# Altium footprint library PCB_Footprint.PcbLib: 124 footprints (part 5 of 8)
Each footprint in its own frame and in the unit in brackets; x right, y up, seen from the top. Pads: shape width x height; smd on the part's side, far side on the other; paste and mask are expansions set on the pad; w line width, h text height; cw(c..) or ccw(c..) is an arc to the next point about the centre after c.
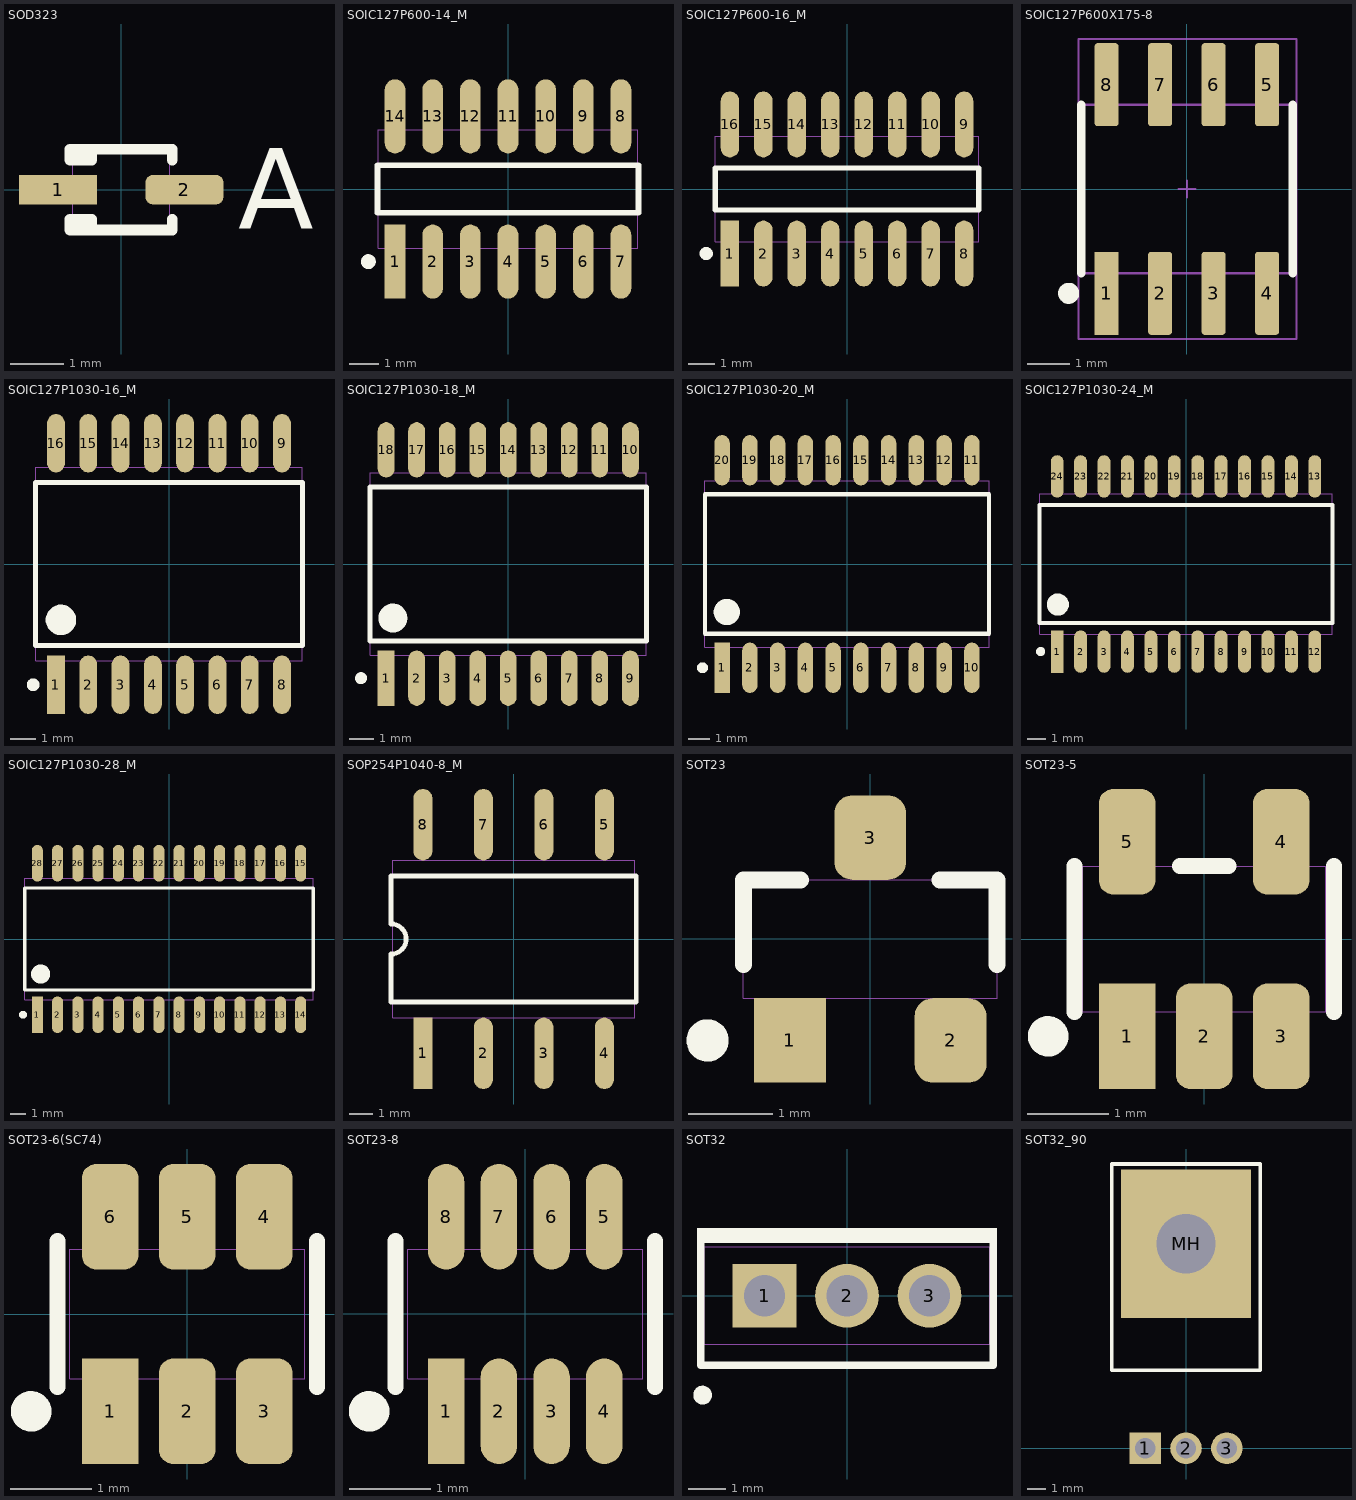
[diagram p4: the footprints below, top view; thin cyan lines are the x and y axes]

## SOD323 [mm] "SOD-323/SC-76; 2 Leads; Body 1.7 x 1.3 mm, (LxW)"
height 1.1
pads (2):
  rect 1.45x0.55 smd: 1(-1.175,0)
  rrect50% 1.45x0.55 smd: 2(1.175,0)
Top Overlay:
  lines w0.2: -0.55,-0.75 -0.55,-0.55 -0.95,-0.55 -0.95,-0.75 0.95,-0.75 0.95,-0.55 ; -0.55,0.75 -0.55,0.55 -0.95,0.55 -0.95,0.75 0.95,0.75 0.95,0.55
  text "A" at 2.175,-0.725 h1.5
Component Body:
  lines w0.01: -0.9,-0.7 -0.9,0.7 0.9,0.7 0.9,-0.7 -0.9,-0.7
3D body: height 1.1, standoff 0, extent -0.9,-0.7 0.9,0.7

## SOIC127P600-14_M [mm] "SOIC, 14-Leads, Body 3.9x8.65mm (narrow body), Pitch 1.27mm, IPC Low Density"
height 1.75
pads (14):
  rect 0.7x2.5 smd: 1(-3.81,-2.45)
  oval 0.7x2.5 smd: 2(-2.54,-2.45) 3(-1.27,-2.45) 4(0,-2.45) 5(1.27,-2.45) 6(2.54,-2.45) 7(3.81,-2.45) 8(3.81,2.45) 9(2.54,2.45) 10(1.27,2.45) 11(0,2.45) 12(-1.27,2.45) 13(-2.54,2.45) 14(-3.81,2.45)
Top Overlay:
  circle w0.25: c-4.71,-2.45 r0.125
  lines w0.2: -4.4,-0.8 -4.4,0.8 4.4,0.8 4.4,-0.8 -4.4,-0.8
Component Body:
  lines w0.01: -4.375,-2 -4.375,2 4.375,2 4.375,-2 -4.375,-2
3D body: height 0.95, standoff 0.75, extent -4.06,2 -3.56,2.35
3D body: height 0.75, standoff 0.1, extent -4.06,2.15 -3.56,2.35
3D body: height 0.2, standoff 0, extent -4.06,2.15 -3.56,3.1
3D body: height 0.95, standoff 0.75, extent -2.79,2 -2.29,2.35
3D body: height 0.75, standoff 0.1, extent -2.79,2.15 -2.29,2.35
3D body: height 0.2, standoff 0, extent -2.79,2.15 -2.29,3.1
3D body: height 0.95, standoff 0.75, extent -1.52,2 -1.02,2.35
3D body: height 0.75, standoff 0.1, extent -1.52,2.15 -1.02,2.35
3D body: height 0.2, standoff 0, extent -1.52,2.15 -1.02,3.1
3D body: height 0.95, standoff 0.75, extent -0.25,2 0.25,2.35
3D body: height 0.75, standoff 0.1, extent -0.25,2.15 0.25,2.35
3D body: height 0.2, standoff 0, extent -0.25,2.15 0.25,3.1
3D body: height 0.95, standoff 0.75, extent 1.02,2 1.52,2.35
3D body: height 0.75, standoff 0.1, extent 1.02,2.15 1.52,2.35
3D body: height 0.2, standoff 0, extent 1.02,2.15 1.52,3.1
3D body: height 0.95, standoff 0.75, extent 2.29,2 2.79,2.35
3D body: height 0.75, standoff 0.1, extent 2.29,2.15 2.79,2.35
3D body: height 0.2, standoff 0, extent 2.29,2.15 2.79,3.1
3D body: height 0.95, standoff 0.75, extent 3.56,2 4.06,2.35
3D body: height 0.75, standoff 0.1, extent 3.56,2.15 4.06,2.35
3D body: height 0.2, standoff 0, extent 3.56,2.15 4.06,3.1
3D body: height 0.95, standoff 0.75, extent 3.56,-2.35 4.06,-2
3D body: height 0.75, standoff 0.1, extent 3.56,-2.35 4.06,-2.15
3D body: height 0.2, standoff 0, extent 3.56,-3.1 4.06,-2.15
3D body: height 0.95, standoff 0.75, extent 2.29,-2.35 2.79,-2
3D body: height 0.75, standoff 0.1, extent 2.29,-2.35 2.79,-2.15
3D body: height 0.2, standoff 0, extent 2.29,-3.1 2.79,-2.15
3D body: height 0.95, standoff 0.75, extent 1.02,-2.35 1.52,-2
3D body: height 0.75, standoff 0.1, extent 1.02,-2.35 1.52,-2.15
3D body: height 0.2, standoff 0, extent 1.02,-3.1 1.52,-2.15
3D body: height 0.95, standoff 0.75, extent -0.25,-2.35 0.25,-2
3D body: height 0.75, standoff 0.1, extent -0.25,-2.35 0.25,-2.15
3D body: height 0.2, standoff 0, extent -0.25,-3.1 0.25,-2.15
3D body: height 0.95, standoff 0.75, extent -1.52,-2.35 -1.02,-2
3D body: height 0.75, standoff 0.1, extent -1.52,-2.35 -1.02,-2.15
3D body: height 0.2, standoff 0, extent -1.52,-3.1 -1.02,-2.15
3D body: height 1.75, standoff 0, extent -4.375,-2 4.375,2
3D body: height 0.2, standoff 0, extent -4.06,-3.1 -3.56,-2.15
3D body: height 0.75, standoff 0.1, extent -4.06,-2.35 -3.56,-2.15
3D body: height 0.95, standoff 0.75, extent -4.06,-2.35 -3.56,-2
3D body: height 0.2, standoff 0, extent -2.79,-3.1 -2.29,-2.15
3D body: height 0.75, standoff 0.1, extent -2.79,-2.35 -2.29,-2.15
3D body: height 0.95, standoff 0.75, extent -2.79,-2.35 -2.29,-2

## SOIC127P600-16_M [mm] "SOIC, 16-Leads, Body 3.9x9.9mm (narrow body), Pitch 1.27mm, IPC Low Density"
height 1.75
pads (16):
  rect 0.7x2.5 smd: 1(-4.445,-2.45)
  oval 0.7x2.5 smd: 2(-3.175,-2.45) 3(-1.905,-2.45) 4(-0.635,-2.45) 5(0.635,-2.45) 6(1.905,-2.45) 7(3.175,-2.45) 8(4.445,-2.45) 9(4.445,2.45) 10(3.175,2.45) 11(1.905,2.45) 12(0.635,2.45) 13(-0.635,2.45) 14(-1.905,2.45) 15(-3.175,2.45) 16(-4.445,2.45)
Top Overlay:
  circle w0.25: c-5.345,-2.45 r0.125
  lines w0.2: -5,-0.8 5,-0.8 5,0.8 -5,0.8 -5,-0.8
Component Body:
  lines w0.01: -5,-2 -5,2 5,2 5,-2 -5,-2
3D body: height 1.75, standoff 0, extent -5,-2 5,2
3D body: height 0.2, standoff 0, extent -4.695,2.15 -4.195,3.1
3D body: height 0.75, standoff 0.1, extent -4.695,2.15 -4.195,2.35
3D body: height 0.95, standoff 0.75, extent -4.695,2 -4.195,2.35
3D body: height 0.2, standoff 0, extent -3.425,2.15 -2.925,3.1
3D body: height 0.75, standoff 0.1, extent -3.425,2.15 -2.925,2.35
3D body: height 0.95, standoff 0.75, extent -3.425,2 -2.925,2.35
3D body: height 0.2, standoff 0, extent -2.155,2.15 -1.655,3.1
3D body: height 0.75, standoff 0.1, extent -2.155,2.15 -1.655,2.35
3D body: height 0.95, standoff 0.75, extent -2.155,2 -1.655,2.35
3D body: height 0.2, standoff 0, extent -0.885,2.15 -0.385,3.1
3D body: height 0.75, standoff 0.1, extent -0.885,2.15 -0.385,2.35
3D body: height 0.95, standoff 0.75, extent -0.885,2 -0.385,2.35
3D body: height 0.2, standoff 0, extent 0.385,2.15 0.885,3.1
3D body: height 0.75, standoff 0.1, extent 0.385,2.15 0.885,2.35
3D body: height 0.95, standoff 0.75, extent 0.385,2 0.885,2.35
3D body: height 0.2, standoff 0, extent 1.655,2.15 2.155,3.1
3D body: height 0.75, standoff 0.1, extent 1.655,2.15 2.155,2.35
3D body: height 0.95, standoff 0.75, extent 1.655,2 2.155,2.35
3D body: height 0.2, standoff 0, extent 2.925,2.15 3.425,3.1
3D body: height 0.75, standoff 0.1, extent 2.925,2.15 3.425,2.35
3D body: height 0.95, standoff 0.75, extent 2.925,2 3.425,2.35
3D body: height 0.2, standoff 0, extent 4.195,2.15 4.695,3.1
3D body: height 0.75, standoff 0.1, extent 4.195,2.15 4.695,2.35
3D body: height 0.95, standoff 0.75, extent 4.195,2 4.695,2.35
3D body: height 0.2, standoff 0, extent -4.695,-3.1 -4.195,-2.15
3D body: height 0.75, standoff 0.1, extent -4.695,-2.35 -4.195,-2.15
3D body: height 0.95, standoff 0.75, extent -4.695,-2.35 -4.195,-2
3D body: height 0.2, standoff 0, extent -3.425,-3.1 -2.925,-2.15
3D body: height 0.75, standoff 0.1, extent -3.425,-2.35 -2.925,-2.15
3D body: height 0.95, standoff 0.75, extent -3.425,-2.35 -2.925,-2
3D body: height 0.2, standoff 0, extent -2.155,-3.1 -1.655,-2.15
3D body: height 0.75, standoff 0.1, extent -2.155,-2.35 -1.655,-2.15
3D body: height 0.95, standoff 0.75, extent -2.155,-2.35 -1.655,-2
3D body: height 0.2, standoff 0, extent -0.885,-3.1 -0.385,-2.15
3D body: height 0.75, standoff 0.1, extent -0.885,-2.35 -0.385,-2.15
3D body: height 0.95, standoff 0.75, extent -0.885,-2.35 -0.385,-2
3D body: height 0.2, standoff 0, extent 0.385,-3.1 0.885,-2.15
3D body: height 0.75, standoff 0.1, extent 0.385,-2.35 0.885,-2.15
3D body: height 0.95, standoff 0.75, extent 0.385,-2.35 0.885,-2
3D body: height 0.2, standoff 0, extent 1.655,-3.1 2.155,-2.15
3D body: height 0.75, standoff 0.1, extent 1.655,-2.35 2.155,-2.15
3D body: height 0.95, standoff 0.75, extent 1.655,-2.35 2.155,-2
3D body: height 0.2, standoff 0, extent 2.925,-3.1 3.425,-2.15
3D body: height 0.75, standoff 0.1, extent 2.925,-2.35 3.425,-2.15
3D body: height 0.95, standoff 0.75, extent 2.925,-2.35 3.425,-2
3D body: height 0.2, standoff 0, extent 4.195,-3.1 4.695,-2.15
3D body: height 0.75, standoff 0.1, extent 4.195,-2.35 4.695,-2.15
3D body: height 0.95, standoff 0.75, extent 4.195,-2.35 4.695,-2

## SOIC127P600X175-8 [mm]
height 1.75
pads (8):
  rect 0.57x1.97 smd paste+0 mask+0.05: 1(-1.905,-2.475)
  rrect25% 0.57x1.97 smd paste+0 mask+0.05: 2(-0.635,-2.475) 3(0.635,-2.475) 4(1.905,-2.475) 5(1.905,2.475) 6(0.635,2.475) 7(-0.635,2.475) 8(-1.905,2.475)
Top Overlay:
  circle w0.25: c-2.805,-2.475 r0.125
  lines w0.2: -2.51,-2 -2.51,2 ; 2.51,-2 2.51,2
Top Courtyard:
  lines w0.05: -2.575,-3.56 2.6,-3.56 2.6,3.56 -2.575,3.56 -2.575,-3.56
Top Component Center:
  lines w0.05: -0.2,0 0.2,0 ; 0,-0.2 0,0.2
Top Component Outline:
  lines w0.05: -2.45,-2 2.45,-2 2.45,2 -2.45,2 -2.45,-2
Top Designator:
  text ".Designator" at 0.395,-3.932 h1.75
3D body "SOIC127P600X175-8N.STEP": height 1.75, standoff 0, extent -2.45,-3 2.45,3

## SOIC127P1030-16_M [mm] "SOIC, 16-Leads, Body 7.5x10.3mm (wide body), Pitch 1.27mm, IPC Low Density"
height 2.67
pads (16):
  rect 0.7x2.3 smd: 1(-4.445,-4.75)
  oval 0.7x2.3 smd: 2(-3.175,-4.75) 3(-1.905,-4.75) 4(-0.635,-4.75) 5(0.635,-4.75) 6(1.905,-4.75) 7(3.175,-4.75) 8(4.445,-4.75) 9(4.445,4.75) 10(3.175,4.75) 11(1.905,4.75) 12(0.635,4.75) 13(-0.635,4.75) 14(-1.905,4.75) 15(-3.175,4.75) 16(-4.445,4.75)
Top Overlay:
  circle w0.25: c-5.345,-4.75 r0.125
  circle w0.6: c-4.25,-2.2 r0.3
  lines w0.2: -5.25,-3.2 5.25,-3.2 5.25,3.2 -5.25,3.2 -5.25,-3.2
Component Body:
  lines w0.01: -5.25,-3.8 5.25,-3.8 5.25,3.8 -5.25,3.8 -5.25,-3.8
3D body: height 0.2, standoff 0, extent 4.195,4.175 4.695,5.325
3D body: height 1.2, standoff 0.1, extent 4.195,4.175 4.695,4.375
3D body: height 1.4, standoff 1.2, extent 4.195,3.8 4.695,4.375
3D body: height 0.2, standoff 0, extent 2.925,4.175 3.425,5.325
3D body: height 1.2, standoff 0.1, extent 2.925,4.175 3.425,4.375
3D body: height 1.4, standoff 1.2, extent 2.925,3.8 3.425,4.375
3D body: height 0.2, standoff 0, extent 1.655,4.175 2.155,5.325
3D body: height 1.2, standoff 0.1, extent 1.655,4.175 2.155,4.375
3D body: height 1.4, standoff 1.2, extent 1.655,3.8 2.155,4.375
3D body: height 0.2, standoff 0, extent 0.385,4.175 0.885,5.325
3D body: height 1.2, standoff 0.1, extent 0.385,4.175 0.885,4.375
3D body: height 1.4, standoff 1.2, extent 0.385,3.8 0.885,4.375
3D body: height 0.2, standoff 0, extent -0.885,4.175 -0.385,5.325
3D body: height 1.2, standoff 0.1, extent -0.885,4.175 -0.385,4.375
3D body: height 1.4, standoff 1.2, extent -0.885,3.8 -0.385,4.375
3D body: height 0.2, standoff 0, extent -2.155,4.175 -1.655,5.325
3D body: height 1.2, standoff 0.1, extent -2.155,4.175 -1.655,4.375
3D body: height 1.4, standoff 1.2, extent -2.155,3.8 -1.655,4.375
3D body: height 0.2, standoff 0, extent -3.425,4.175 -2.925,5.325
3D body: height 1.2, standoff 0.1, extent -3.425,4.175 -2.925,4.375
3D body: height 1.4, standoff 1.2, extent -3.425,3.8 -2.925,4.375
3D body: height 0.2, standoff 0, extent -4.695,4.175 -4.195,5.325
3D body: height 1.2, standoff 0.1, extent -4.695,4.175 -4.195,4.375
3D body: height 1.4, standoff 1.2, extent -4.695,3.8 -4.195,4.375
3D body: height 1.4, standoff 1.2, extent 4.195,-4.375 4.695,-3.8
3D body: height 1.2, standoff 0.1, extent 4.195,-4.375 4.695,-4.175
3D body: height 0.2, standoff 0, extent 4.195,-5.325 4.695,-4.175
3D body: height 1.4, standoff 1.2, extent 2.925,-4.375 3.425,-3.8
3D body: height 1.2, standoff 0.1, extent 2.925,-4.375 3.425,-4.175
3D body: height 0.2, standoff 0, extent 2.925,-5.325 3.425,-4.175
3D body: height 1.4, standoff 1.2, extent 1.655,-4.375 2.155,-3.8
3D body: height 1.2, standoff 0.1, extent 1.655,-4.375 2.155,-4.175
3D body: height 0.2, standoff 0, extent 1.655,-5.325 2.155,-4.175
3D body: height 1.4, standoff 1.2, extent 0.385,-4.375 0.885,-3.8
3D body: height 1.2, standoff 0.1, extent 0.385,-4.375 0.885,-4.175
3D body: height 0.2, standoff 0, extent 0.385,-5.325 0.885,-4.175
3D body: height 1.4, standoff 1.2, extent -0.885,-4.375 -0.385,-3.8
3D body: height 1.2, standoff 0.1, extent -0.885,-4.375 -0.385,-4.175
3D body: height 0.2, standoff 0, extent -0.885,-5.325 -0.385,-4.175
3D body: height 1.4, standoff 1.2, extent -2.155,-4.375 -1.655,-3.8
3D body: height 1.2, standoff 0.1, extent -2.155,-4.375 -1.655,-4.175
3D body: height 0.2, standoff 0, extent -2.155,-5.325 -1.655,-4.175
3D body: height 1.4, standoff 1.2, extent -3.425,-4.375 -2.925,-3.8
3D body: height 1.2, standoff 0.1, extent -3.425,-4.375 -2.925,-4.175
3D body: height 0.2, standoff 0, extent -3.425,-5.325 -2.925,-4.175
3D body: height 1.4, standoff 1.2, extent -4.695,-4.375 -4.195,-3.8
3D body: height 1.2, standoff 0.1, extent -4.695,-4.375 -4.195,-4.175
3D body: height 0.2, standoff 0, extent -4.695,-5.325 -4.195,-4.175
3D body: height 2.67, standoff 0, extent -5.25,-3.8 5.25,3.8

## SOIC127P1030-18_M [mm] "SOIC, 18-Leads, Body 7.5x11.55mm (wide body), Pitch 1.27mm, IPC Low Density"
height 2.67
pads (18):
  rect 0.7x2.3 smd: 1(-5.08,-4.75)
  oval 0.7x2.3 smd: 2(-3.81,-4.75) 3(-2.54,-4.75) 4(-1.27,-4.75) 5(0,-4.75) 6(1.27,-4.75) 7(2.54,-4.75) 8(3.81,-4.75) 9(5.08,-4.75) 10(5.08,4.75) 11(3.81,4.75) 12(2.54,4.75) 13(1.27,4.75) 14(0,4.75) 15(-1.27,4.75) 16(-2.54,4.75) 17(-3.81,4.75) 18(-5.08,4.75)
Top Overlay:
  circle w0.25: c-6.125,-4.75 r0.125
  circle w0.6: c-4.8,-2.25 r0.3
  lines w0.2: -5.75,-3.2 5.75,-3.2 5.75,3.2 -5.75,3.2 -5.75,-3.2
Component Body:
  lines w0.01: -5.75,-3.8 5.75,-3.8 5.75,3.8 -5.75,3.8 -5.75,-3.8
3D body: height 1.4, standoff 1.2, extent -5.33,3.8 -4.83,4.375
3D body: height 1.2, standoff 0.1, extent -5.33,4.175 -4.83,4.375
3D body: height 0.2, standoff 0, extent -5.33,4.175 -4.83,5.325
3D body: height 1.4, standoff 1.2, extent -4.06,3.8 -3.56,4.375
3D body: height 1.2, standoff 0.1, extent -4.06,4.175 -3.56,4.375
3D body: height 0.2, standoff 0, extent -4.06,4.175 -3.56,5.325
3D body: height 1.4, standoff 1.2, extent -2.79,3.8 -2.29,4.375
3D body: height 1.2, standoff 0.1, extent -2.79,4.175 -2.29,4.375
3D body: height 0.2, standoff 0, extent -2.79,4.175 -2.29,5.325
3D body: height 1.4, standoff 1.2, extent -1.52,3.8 -1.02,4.375
3D body: height 1.2, standoff 0.1, extent -1.52,4.175 -1.02,4.375
3D body: height 0.2, standoff 0, extent -1.52,4.175 -1.02,5.325
3D body: height 1.4, standoff 1.2, extent -0.25,3.8 0.25,4.375
3D body: height 1.2, standoff 0.1, extent -0.25,4.175 0.25,4.375
3D body: height 0.2, standoff 0, extent -0.25,4.175 0.25,5.325
3D body: height 1.4, standoff 1.2, extent 1.02,3.8 1.52,4.375
3D body: height 1.2, standoff 0.1, extent 1.02,4.175 1.52,4.375
3D body: height 0.2, standoff 0, extent 1.02,4.175 1.52,5.325
3D body: height 1.4, standoff 1.2, extent 2.29,3.8 2.79,4.375
3D body: height 1.2, standoff 0.1, extent 2.29,4.175 2.79,4.375
3D body: height 0.2, standoff 0, extent 2.29,4.175 2.79,5.325
3D body: height 1.4, standoff 1.2, extent 3.56,3.8 4.06,4.375
3D body: height 1.2, standoff 0.1, extent 3.56,4.175 4.06,4.375
3D body: height 0.2, standoff 0, extent 3.56,4.175 4.06,5.325
3D body: height 1.4, standoff 1.2, extent 4.83,3.8 5.33,4.375
3D body: height 1.2, standoff 0.1, extent 4.83,4.175 5.33,4.375
3D body: height 0.2, standoff 0, extent 4.83,4.175 5.33,5.325
3D body: height 1.4, standoff 1.2, extent 4.83,-4.375 5.33,-3.8
3D body: height 1.2, standoff 0.1, extent 4.83,-4.375 5.33,-4.175
3D body: height 0.2, standoff 0, extent 4.83,-5.325 5.33,-4.175
3D body: height 1.4, standoff 1.2, extent 3.56,-4.375 4.06,-3.8
3D body: height 1.2, standoff 0.1, extent 3.56,-4.375 4.06,-4.175
3D body: height 0.2, standoff 0, extent 3.56,-5.325 4.06,-4.175
3D body: height 1.4, standoff 1.2, extent 2.29,-4.375 2.79,-3.8
3D body: height 1.2, standoff 0.1, extent 2.29,-4.375 2.79,-4.175
3D body: height 0.2, standoff 0, extent 2.29,-5.325 2.79,-4.175
3D body: height 1.4, standoff 1.2, extent 1.02,-4.375 1.52,-3.8
3D body: height 1.2, standoff 0.1, extent 1.02,-4.375 1.52,-4.175
3D body: height 0.2, standoff 0, extent 1.02,-5.325 1.52,-4.175
3D body: height 1.4, standoff 1.2, extent -0.25,-4.375 0.25,-3.8
3D body: height 1.2, standoff 0.1, extent -0.25,-4.375 0.25,-4.175
3D body: height 0.2, standoff 0, extent -0.25,-5.325 0.25,-4.175
3D body: height 1.4, standoff 1.2, extent -1.52,-4.375 -1.02,-3.8
3D body: height 1.2, standoff 0.1, extent -1.52,-4.375 -1.02,-4.175
3D body: height 0.2, standoff 0, extent -1.52,-5.325 -1.02,-4.175
3D body: height 1.4, standoff 1.2, extent -2.79,-4.375 -2.29,-3.8
3D body: height 1.2, standoff 0.1, extent -2.79,-4.375 -2.29,-4.175
3D body: height 0.2, standoff 0, extent -2.79,-5.325 -2.29,-4.175
3D body: height 1.4, standoff 1.2, extent -4.06,-4.375 -3.56,-3.8
3D body: height 1.2, standoff 0.1, extent -4.06,-4.375 -3.56,-4.175
3D body: height 0.2, standoff 0, extent -4.06,-5.325 -3.56,-4.175
3D body: height 1.4, standoff 1.2, extent -5.33,-4.375 -4.83,-3.8
3D body: height 1.2, standoff 0.1, extent -5.33,-4.375 -4.83,-4.175
3D body: height 0.2, standoff 0, extent -5.33,-5.325 -4.83,-4.175
3D body: height 2.67, standoff 0, extent -5.75,-3.8 5.75,3.8

## SOIC127P1030-20_M [mm] "SOIC, 20-Leads, Body 7.5x12.8mm (wide body), Pitch 1.27mm, IPC Low Density"
height 2.67
pads (20):
  rect 0.7x2.3 smd: 1(-5.715,-4.75)
  oval 0.7x2.3 smd: 2(-4.445,-4.75) 3(-3.175,-4.75) 4(-1.905,-4.75) 5(-0.635,-4.75) 6(0.635,-4.75) 7(1.905,-4.75) 8(3.175,-4.75) 9(4.445,-4.75) 10(5.715,-4.75) 11(5.715,4.75) 12(4.445,4.75) 13(3.175,4.75) 14(1.905,4.75) 15(0.635,4.75) 16(-0.635,4.75) 17(-1.905,4.75) 18(-3.175,4.75) 19(-4.445,4.75) 20(-5.715,4.75)
Top Overlay:
  circle w0.25: c-6.615,-4.75 r0.125
  circle w0.6: c-5.5,-2.2 r0.3
  lines w0.2: -6.5,-3.2 6.5,-3.2 6.5,3.2 -6.5,3.2 -6.5,-3.2
Component Body:
  lines w0.01: -6.5,-3.8 -6.5,3.8 6.5,3.8 6.5,-3.8 -6.5,-3.8
3D body: height 1.4, standoff 1.2, extent -5.965,3.8 -5.465,4.375
3D body: height 1.2, standoff 0.1, extent -5.965,4.175 -5.465,4.375
3D body: height 0.2, standoff 0, extent -5.965,4.175 -5.465,5.325
3D body: height 1.4, standoff 1.2, extent -4.695,3.8 -4.195,4.375
3D body: height 1.2, standoff 0.1, extent -4.695,4.175 -4.195,4.375
3D body: height 0.2, standoff 0, extent -4.695,4.175 -4.195,5.325
3D body: height 1.4, standoff 1.2, extent -3.425,3.8 -2.925,4.375
3D body: height 1.2, standoff 0.1, extent -3.425,4.175 -2.925,4.375
3D body: height 0.2, standoff 0, extent -3.425,4.175 -2.925,5.325
3D body: height 1.4, standoff 1.2, extent -2.155,3.8 -1.655,4.375
3D body: height 1.2, standoff 0.1, extent -2.155,4.175 -1.655,4.375
3D body: height 0.2, standoff 0, extent -2.155,4.175 -1.655,5.325
3D body: height 1.4, standoff 1.2, extent -0.885,3.8 -0.385,4.375
3D body: height 1.2, standoff 0.1, extent -0.885,4.175 -0.385,4.375
3D body: height 0.2, standoff 0, extent -0.885,4.175 -0.385,5.325
3D body: height 1.4, standoff 1.2, extent 0.385,3.8 0.885,4.375
3D body: height 1.2, standoff 0.1, extent 0.385,4.175 0.885,4.375
3D body: height 0.2, standoff 0, extent 0.385,4.175 0.885,5.325
3D body: height 1.4, standoff 1.2, extent 1.655,3.8 2.155,4.375
3D body: height 1.2, standoff 0.1, extent 1.655,4.175 2.155,4.375
3D body: height 0.2, standoff 0, extent 1.655,4.175 2.155,5.325
3D body: height 1.4, standoff 1.2, extent 2.925,3.8 3.425,4.375
3D body: height 1.2, standoff 0.1, extent 2.925,4.175 3.425,4.375
3D body: height 0.2, standoff 0, extent 2.925,4.175 3.425,5.325
3D body: height 1.4, standoff 1.2, extent 4.195,3.8 4.695,4.375
3D body: height 1.2, standoff 0.1, extent 4.195,4.175 4.695,4.375
3D body: height 0.2, standoff 0, extent 4.195,4.175 4.695,5.325
3D body: height 1.4, standoff 1.2, extent 5.465,3.8 5.965,4.375
3D body: height 1.2, standoff 0.1, extent 5.465,4.175 5.965,4.375
3D body: height 0.2, standoff 0, extent 5.465,4.175 5.965,5.325
3D body: height 2.67, standoff 0, extent -6.5,-3.8 6.5,3.8
3D body: height 0.2, standoff 0, extent -5.965,-5.325 -5.465,-4.175
3D body: height 1.2, standoff 0.1, extent -5.965,-4.375 -5.465,-4.175
3D body: height 1.4, standoff 1.2, extent -5.965,-4.375 -5.465,-3.8
3D body: height 0.2, standoff 0, extent -4.695,-5.325 -4.195,-4.175
3D body: height 1.2, standoff 0.1, extent -4.695,-4.375 -4.195,-4.175
3D body: height 1.4, standoff 1.2, extent -4.695,-4.375 -4.195,-3.8
3D body: height 0.2, standoff 0, extent -3.425,-5.325 -2.925,-4.175
3D body: height 1.2, standoff 0.1, extent -3.425,-4.375 -2.925,-4.175
3D body: height 1.4, standoff 1.2, extent -3.425,-4.375 -2.925,-3.8
3D body: height 0.2, standoff 0, extent -2.155,-5.325 -1.655,-4.175
3D body: height 1.2, standoff 0.1, extent -2.155,-4.375 -1.655,-4.175
3D body: height 1.4, standoff 1.2, extent -2.155,-4.375 -1.655,-3.8
3D body: height 0.2, standoff 0, extent -0.885,-5.325 -0.385,-4.175
3D body: height 1.2, standoff 0.1, extent -0.885,-4.375 -0.385,-4.175
3D body: height 1.4, standoff 1.2, extent -0.885,-4.375 -0.385,-3.8
3D body: height 0.2, standoff 0, extent 0.385,-5.325 0.885,-4.175
3D body: height 1.2, standoff 0.1, extent 0.385,-4.375 0.885,-4.175
3D body: height 1.4, standoff 1.2, extent 0.385,-4.375 0.885,-3.8
3D body: height 0.2, standoff 0, extent 1.655,-5.325 2.155,-4.175
3D body: height 1.2, standoff 0.1, extent 1.655,-4.375 2.155,-4.175
3D body: height 1.4, standoff 1.2, extent 1.655,-4.375 2.155,-3.8
3D body: height 0.2, standoff 0, extent 2.925,-5.325 3.425,-4.175
3D body: height 1.2, standoff 0.1, extent 2.925,-4.375 3.425,-4.175
3D body: height 1.4, standoff 1.2, extent 2.925,-4.375 3.425,-3.8
3D body: height 0.2, standoff 0, extent 4.195,-5.325 4.695,-4.175
3D body: height 1.2, standoff 0.1, extent 4.195,-4.375 4.695,-4.175
3D body: height 1.4, standoff 1.2, extent 4.195,-4.375 4.695,-3.8
3D body: height 0.2, standoff 0, extent 5.465,-5.325 5.965,-4.175
3D body: height 1.2, standoff 0.1, extent 5.465,-4.375 5.965,-4.175
3D body: height 1.4, standoff 1.2, extent 5.465,-4.375 5.965,-3.8

## SOIC127P1030-24_M [mm] "SOIC, 24-Leads, Body 7.5x15.4mm (wide body), Pitch 1.27mm, IPC Low Density"
height 2.67
pads (24):
  rect 0.7x2.3 smd: 1(-6.985,-4.75)
  oval 0.7x2.3 smd: 2(-5.715,-4.75) 3(-4.445,-4.75) 4(-3.175,-4.75) 5(-1.905,-4.75) 6(-0.635,-4.75) 7(0.635,-4.75) 8(1.905,-4.75) 9(3.175,-4.75) 10(4.445,-4.75) 11(5.715,-4.75) 12(6.985,-4.75) 13(6.985,4.75) 14(5.715,4.75) 15(4.445,4.75) 16(3.175,4.75) 17(1.905,4.75) 18(0.635,4.75) 19(-0.635,4.75) 20(-1.905,4.75) 21(-3.175,4.75) 22(-4.445,4.75) 23(-5.715,4.75) 24(-6.985,4.75)
Top Overlay:
  circle w0.6: c-6.95,-2.2 r0.3
  circle w0.25: c-7.885,-4.75 r0.125
  lines w0.2: -7.95,-3.2 -7.95,3.2 7.95,3.2 7.95,-3.2 -7.95,-3.2
Component Body:
  lines w0.01: -7.925,-3.8 -7.925,3.8 7.925,3.8 7.925,-3.8 -7.925,-3.8
3D body: height 1.4, standoff 1.2, extent -7.235,3.8 -6.735,4.375
3D body: height 1.2, standoff 0.1, extent -7.235,4.175 -6.735,4.375
3D body: height 0.2, standoff 0, extent -7.235,4.175 -6.735,5.325
3D body: height 1.4, standoff 1.2, extent -5.965,3.8 -5.465,4.375
3D body: height 1.2, standoff 0.1, extent -5.965,4.175 -5.465,4.375
3D body: height 0.2, standoff 0, extent -5.965,4.175 -5.465,5.325
3D body: height 1.4, standoff 1.2, extent -4.695,3.8 -4.195,4.375
3D body: height 1.2, standoff 0.1, extent -4.695,4.175 -4.195,4.375
3D body: height 0.2, standoff 0, extent -4.695,4.175 -4.195,5.325
3D body: height 1.4, standoff 1.2, extent -3.425,3.8 -2.925,4.375
3D body: height 1.2, standoff 0.1, extent -3.425,4.175 -2.925,4.375
3D body: height 0.2, standoff 0, extent -3.425,4.175 -2.925,5.325
3D body: height 1.4, standoff 1.2, extent -2.155,3.8 -1.655,4.375
3D body: height 1.2, standoff 0.1, extent -2.155,4.175 -1.655,4.375
3D body: height 0.2, standoff 0, extent -2.155,4.175 -1.655,5.325
3D body: height 1.4, standoff 1.2, extent -0.885,3.8 -0.385,4.375
3D body: height 1.2, standoff 0.1, extent -0.885,4.175 -0.385,4.375
3D body: height 0.2, standoff 0, extent -0.885,4.175 -0.385,5.325
3D body: height 1.4, standoff 1.2, extent 0.385,3.8 0.885,4.375
3D body: height 1.2, standoff 0.1, extent 0.385,4.175 0.885,4.375
3D body: height 0.2, standoff 0, extent 0.385,4.175 0.885,5.325
3D body: height 1.4, standoff 1.2, extent 1.655,3.8 2.155,4.375
3D body: height 1.2, standoff 0.1, extent 1.655,4.175 2.155,4.375
3D body: height 0.2, standoff 0, extent 1.655,4.175 2.155,5.325
3D body: height 1.4, standoff 1.2, extent 2.925,3.8 3.425,4.375
3D body: height 1.2, standoff 0.1, extent 2.925,4.175 3.425,4.375
3D body: height 0.2, standoff 0, extent 2.925,4.175 3.425,5.325
3D body: height 1.4, standoff 1.2, extent 4.195,3.8 4.695,4.375
3D body: height 1.2, standoff 0.1, extent 4.195,4.175 4.695,4.375
3D body: height 0.2, standoff 0, extent 4.195,4.175 4.695,5.325
3D body: height 1.4, standoff 1.2, extent 5.465,3.8 5.965,4.375
3D body: height 1.2, standoff 0.1, extent 5.465,4.175 5.965,4.375
3D body: height 0.2, standoff 0, extent 5.465,4.175 5.965,5.325
3D body: height 1.4, standoff 1.2, extent 6.735,3.8 7.235,4.375
3D body: height 1.2, standoff 0.1, extent 6.735,4.175 7.235,4.375
3D body: height 0.2, standoff 0, extent 6.735,4.175 7.235,5.325
3D body: height 2.67, standoff 0, extent -7.925,-3.8 7.925,3.8
3D body: height 0.2, standoff 0, extent -7.235,-5.325 -6.735,-4.175
3D body: height 1.2, standoff 0.1, extent -7.235,-4.375 -6.735,-4.175
3D body: height 1.4, standoff 1.2, extent -7.235,-4.375 -6.735,-3.8
3D body: height 0.2, standoff 0, extent -5.965,-5.325 -5.465,-4.175
3D body: height 1.2, standoff 0.1, extent -5.965,-4.375 -5.465,-4.175
3D body: height 1.4, standoff 1.2, extent -5.965,-4.375 -5.465,-3.8
3D body: height 0.2, standoff 0, extent -4.695,-5.325 -4.195,-4.175
3D body: height 1.2, standoff 0.1, extent -4.695,-4.375 -4.195,-4.175
3D body: height 1.4, standoff 1.2, extent -4.695,-4.375 -4.195,-3.8
3D body: height 0.2, standoff 0, extent -3.425,-5.325 -2.925,-4.175
3D body: height 1.2, standoff 0.1, extent -3.425,-4.375 -2.925,-4.175
3D body: height 1.4, standoff 1.2, extent -3.425,-4.375 -2.925,-3.8
3D body: height 0.2, standoff 0, extent -2.155,-5.325 -1.655,-4.175
3D body: height 1.2, standoff 0.1, extent -2.155,-4.375 -1.655,-4.175
3D body: height 1.4, standoff 1.2, extent -2.155,-4.375 -1.655,-3.8
3D body: height 0.2, standoff 0, extent -0.885,-5.325 -0.385,-4.175
3D body: height 1.2, standoff 0.1, extent -0.885,-4.375 -0.385,-4.175
3D body: height 1.4, standoff 1.2, extent -0.885,-4.375 -0.385,-3.8
3D body: height 0.2, standoff 0, extent 0.385,-5.325 0.885,-4.175
3D body: height 1.2, standoff 0.1, extent 0.385,-4.375 0.885,-4.175
3D body: height 1.4, standoff 1.2, extent 0.385,-4.375 0.885,-3.8
3D body: height 0.2, standoff 0, extent 1.655,-5.325 2.155,-4.175
3D body: height 1.2, standoff 0.1, extent 1.655,-4.375 2.155,-4.175
3D body: height 1.4, standoff 1.2, extent 1.655,-4.375 2.155,-3.8
3D body: height 0.2, standoff 0, extent 2.925,-5.325 3.425,-4.175
3D body: height 1.2, standoff 0.1, extent 2.925,-4.375 3.425,-4.175
3D body: height 1.4, standoff 1.2, extent 2.925,-4.375 3.425,-3.8
3D body: height 0.2, standoff 0, extent 4.195,-5.325 4.695,-4.175
3D body: height 1.2, standoff 0.1, extent 4.195,-4.375 4.695,-4.175
3D body: height 1.4, standoff 1.2, extent 4.195,-4.375 4.695,-3.8
3D body: height 0.2, standoff 0, extent 5.465,-5.325 5.965,-4.175
3D body: height 1.2, standoff 0.1, extent 5.465,-4.375 5.965,-4.175
3D body: height 1.4, standoff 1.2, extent 5.465,-4.375 5.965,-3.8
3D body: height 0.2, standoff 0, extent 6.735,-5.325 7.235,-4.175
3D body: height 1.2, standoff 0.1, extent 6.735,-4.375 7.235,-4.175
3D body: height 1.4, standoff 1.2, extent 6.735,-4.375 7.235,-3.8

## SOIC127P1030-28_M [mm] "SOIC, 28-Leads, Body 7.5x17.9mm (wide body), Pitch 1.27mm, IPC Low Density"
height 2.67
pads (28):
  rect 0.7x2.3 smd: 1(-8.255,-4.75)
  oval 0.7x2.3 smd: 2(-6.985,-4.75) 3(-5.715,-4.75) 4(-4.445,-4.75) 5(-3.175,-4.75) 6(-1.905,-4.75) 7(-0.635,-4.75) 8(0.635,-4.75) 9(1.905,-4.75) 10(3.175,-4.75) 11(4.445,-4.75) 12(5.715,-4.75) 13(6.985,-4.75) 14(8.255,-4.75) 15(8.255,4.75) 16(6.985,4.75) 17(5.715,4.75) 18(4.445,4.75) 19(3.175,4.75) 20(1.905,4.75) 21(0.635,4.75) 22(-0.635,4.75) 23(-1.905,4.75) 24(-3.175,4.75) 25(-4.445,4.75) 26(-5.715,4.75) 27(-6.985,4.75) 28(-8.255,4.75)
Top Overlay:
  circle w0.25: c-9.155,-4.75 r0.125
  circle w0.6: c-8.05,-2.2 r0.3
  lines w0.2: -9.05,-3.2 9.05,-3.2 9.05,3.2 -9.05,3.2 -9.05,-3.2
Component Body:
  lines w0.01: -9.05,-3.8 9.05,-3.8 9.05,3.8 -9.05,3.8 -9.05,-3.8
3D body: height 0.2, standoff 0, extent 8.005,4.175 8.505,5.325
3D body: height 1.2, standoff 0.1, extent 8.005,4.175 8.505,4.375
3D body: height 1.4, standoff 1.2, extent 8.005,3.8 8.505,4.375
3D body: height 0.2, standoff 0, extent 6.735,4.175 7.235,5.325
3D body: height 1.2, standoff 0.1, extent 6.735,4.175 7.235,4.375
3D body: height 1.4, standoff 1.2, extent 6.735,3.8 7.235,4.375
3D body: height 0.2, standoff 0, extent 5.465,4.175 5.965,5.325
3D body: height 1.2, standoff 0.1, extent 5.465,4.175 5.965,4.375
3D body: height 1.4, standoff 1.2, extent 5.465,3.8 5.965,4.375
3D body: height 0.2, standoff 0, extent 4.195,4.175 4.695,5.325
3D body: height 1.2, standoff 0.1, extent 4.195,4.175 4.695,4.375
3D body: height 1.4, standoff 1.2, extent 4.195,3.8 4.695,4.375
3D body: height 0.2, standoff 0, extent 2.925,4.175 3.425,5.325
3D body: height 1.2, standoff 0.1, extent 2.925,4.175 3.425,4.375
3D body: height 1.4, standoff 1.2, extent 2.925,3.8 3.425,4.375
3D body: height 0.2, standoff 0, extent 1.655,4.175 2.155,5.325
3D body: height 1.2, standoff 0.1, extent 1.655,4.175 2.155,4.375
3D body: height 1.4, standoff 1.2, extent 1.655,3.8 2.155,4.375
3D body: height 0.2, standoff 0, extent 0.385,4.175 0.885,5.325
3D body: height 1.2, standoff 0.1, extent 0.385,4.175 0.885,4.375
3D body: height 1.4, standoff 1.2, extent 0.385,3.8 0.885,4.375
3D body: height 0.2, standoff 0, extent -0.885,4.175 -0.385,5.325
3D body: height 1.2, standoff 0.1, extent -0.885,4.175 -0.385,4.375
3D body: height 1.4, standoff 1.2, extent -0.885,3.8 -0.385,4.375
3D body: height 0.2, standoff 0, extent -2.155,4.175 -1.655,5.325
3D body: height 1.2, standoff 0.1, extent -2.155,4.175 -1.655,4.375
3D body: height 1.4, standoff 1.2, extent -2.155,3.8 -1.655,4.375
3D body: height 0.2, standoff 0, extent -3.425,4.175 -2.925,5.325
3D body: height 1.2, standoff 0.1, extent -3.425,4.175 -2.925,4.375
3D body: height 1.4, standoff 1.2, extent -3.425,3.8 -2.925,4.375
3D body: height 0.2, standoff 0, extent -4.695,4.175 -4.195,5.325
3D body: height 1.2, standoff 0.1, extent -4.695,4.175 -4.195,4.375
3D body: height 1.4, standoff 1.2, extent -4.695,3.8 -4.195,4.375
3D body: height 0.2, standoff 0, extent -5.965,4.175 -5.465,5.325
3D body: height 1.2, standoff 0.1, extent -5.965,4.175 -5.465,4.375
3D body: height 1.4, standoff 1.2, extent -5.965,3.8 -5.465,4.375
3D body: height 0.2, standoff 0, extent -7.235,4.175 -6.735,5.325
3D body: height 1.2, standoff 0.1, extent -7.235,4.175 -6.735,4.375
3D body: height 1.4, standoff 1.2, extent -7.235,3.8 -6.735,4.375
3D body: height 0.2, standoff 0, extent -8.505,4.175 -8.005,5.325
3D body: height 1.2, standoff 0.1, extent -8.505,4.175 -8.005,4.375
3D body: height 1.4, standoff 1.2, extent -8.505,3.8 -8.005,4.375
3D body: height 1.4, standoff 1.2, extent 8.005,-4.375 8.505,-3.8
3D body: height 1.2, standoff 0.1, extent 8.005,-4.375 8.505,-4.175
3D body: height 0.2, standoff 0, extent 8.005,-5.325 8.505,-4.175
3D body: height 1.4, standoff 1.2, extent 6.735,-4.375 7.235,-3.8
3D body: height 1.2, standoff 0.1, extent 6.735,-4.375 7.235,-4.175
3D body: height 0.2, standoff 0, extent 6.735,-5.325 7.235,-4.175
3D body: height 1.4, standoff 1.2, extent 5.465,-4.375 5.965,-3.8
3D body: height 1.2, standoff 0.1, extent 5.465,-4.375 5.965,-4.175
3D body: height 0.2, standoff 0, extent 5.465,-5.325 5.965,-4.175
3D body: height 1.4, standoff 1.2, extent 4.195,-4.375 4.695,-3.8
3D body: height 1.2, standoff 0.1, extent 4.195,-4.375 4.695,-4.175
3D body: height 0.2, standoff 0, extent 4.195,-5.325 4.695,-4.175
3D body: height 1.4, standoff 1.2, extent 2.925,-4.375 3.425,-3.8
3D body: height 1.2, standoff 0.1, extent 2.925,-4.375 3.425,-4.175
3D body: height 0.2, standoff 0, extent 2.925,-5.325 3.425,-4.175
3D body: height 1.4, standoff 1.2, extent 1.655,-4.375 2.155,-3.8
3D body: height 1.2, standoff 0.1, extent 1.655,-4.375 2.155,-4.175
3D body: height 0.2, standoff 0, extent 1.655,-5.325 2.155,-4.175
3D body: height 1.4, standoff 1.2, extent 0.385,-4.375 0.885,-3.8
3D body: height 1.2, standoff 0.1, extent 0.385,-4.375 0.885,-4.175
3D body: height 0.2, standoff 0, extent 0.385,-5.325 0.885,-4.175
3D body: height 1.4, standoff 1.2, extent -0.885,-4.375 -0.385,-3.8
3D body: height 1.2, standoff 0.1, extent -0.885,-4.375 -0.385,-4.175
3D body: height 0.2, standoff 0, extent -0.885,-5.325 -0.385,-4.175
3D body: height 1.4, standoff 1.2, extent -2.155,-4.375 -1.655,-3.8
3D body: height 1.2, standoff 0.1, extent -2.155,-4.375 -1.655,-4.175
3D body: height 0.2, standoff 0, extent -2.155,-5.325 -1.655,-4.175
3D body: height 1.4, standoff 1.2, extent -3.425,-4.375 -2.925,-3.8
3D body: height 1.2, standoff 0.1, extent -3.425,-4.375 -2.925,-4.175
3D body: height 0.2, standoff 0, extent -3.425,-5.325 -2.925,-4.175
3D body: height 1.4, standoff 1.2, extent -4.695,-4.375 -4.195,-3.8
3D body: height 1.2, standoff 0.1, extent -4.695,-4.375 -4.195,-4.175
3D body: height 0.2, standoff 0, extent -4.695,-5.325 -4.195,-4.175
3D body: height 1.4, standoff 1.2, extent -5.965,-4.375 -5.465,-3.8
3D body: height 1.2, standoff 0.1, extent -5.965,-4.375 -5.465,-4.175
3D body: height 0.2, standoff 0, extent -5.965,-5.325 -5.465,-4.175
3D body: height 1.4, standoff 1.2, extent -7.235,-4.375 -6.735,-3.8
3D body: height 1.2, standoff 0.1, extent -7.235,-4.375 -6.735,-4.175
3D body: height 0.2, standoff 0, extent -7.235,-5.325 -6.735,-4.175
3D body: height 1.4, standoff 1.2, extent -8.505,-4.375 -8.005,-3.8
3D body: height 1.2, standoff 0.1, extent -8.505,-4.375 -8.005,-4.175
3D body: height 0.2, standoff 0, extent -8.505,-5.325 -8.005,-4.175
3D body: height 2.67, standoff 0, extent -9.05,-3.8 9.05,3.8

## SOP254P1040-8_M [mm] "SOP, 8-Leads, Body 9.5x6.62mm, Pitch 2.54mm, IPC Low Density"
height 4.85
pads (8):
  rect 0.8x3 smd: 1(-3.81,-4.8)
  oval 0.8x3 smd: 2(-1.27,-4.8) 3(1.27,-4.8) 4(3.81,-4.8) 5(3.81,4.8) 6(1.27,4.8) 7(-1.27,4.8) 8(-3.81,4.8)
Top Overlay:
  lines w0.2: -5.15,-2.65 -5.15,-0.635 ccw(c-5.15,0) -5.15,0.635 -5.15,2.65 5.15,2.65 5.15,-2.65 -5.15,-2.65
Component Body:
  lines w0.01: -5.08,-3.3 -5.08,3.3 5.08,3.3 5.08,-3.3 -5.08,-3.3
3D body: height 3.3, standoff 0, extent 3.01,3.661 4.61,3.96
3D body: height 3.45, standoff 3.15, extent 3.011,3.211 4.61,3.81
3D body: height 3.3, standoff 0, extent -4.61,3.661 -3.01,3.96
3D body: height 3.45, standoff 3.15, extent -4.609,3.211 -3.01,3.81
3D body: height 3.3, standoff 0, extent 3.01,-3.96 4.61,-3.661
3D body: height 3.45, standoff 3.15, extent 3.01,-3.81 4.609,-3.211
3D body: height 3.3, standoff 0, extent -4.61,-3.96 -3.01,-3.661
3D body: height 3.45, standoff 3.15, extent -4.61,-3.81 -3.011,-3.211
3D body: height 4.85, standoff 0.65, extent -5.079,-3.299 5.079,3.299
3D body: height 3.3, standoff 0, extent 0.471,-3.959 2.07,-3.661
3D body: height 3.45, standoff 3.15, extent 0.47,-3.809 2.07,-3.211
3D body: height 3.45, standoff 3.15, extent -2.07,-3.81 -0.471,-3.211
3D body: height 3.3, standoff 0, extent -2.07,-3.96 -0.47,-3.661
3D body: height 3.45, standoff 3.15, extent -2.069,3.211 -0.47,3.81
3D body: height 3.3, standoff 0, extent -2.07,3.661 -0.47,3.96
3D body: height 3.45, standoff 3.15, extent 0.471,3.211 2.07,3.81
3D body: height 3.3, standoff 0, extent 0.47,3.661 2.07,3.96
3D body: height 0.5, standoff 0, extent -4.06,-5.4 -3.56,-3.95
3D body: height 0.5, standoff 0, extent -1.52,-5.4 -1.02,-3.95
3D body: height 0.5, standoff 0, extent 1.02,-5.4 1.52,-3.95
3D body: height 0.5, standoff 0, extent 3.56,-5.4 4.06,-3.95
3D body: height 0.5, standoff 0, extent 3.56,3.95 4.06,5.4
3D body: height 0.5, standoff 0, extent 1.02,3.95 1.52,5.4
3D body: height 0.5, standoff 0, extent -1.52,3.95 -1.02,5.4
3D body: height 0.5, standoff 0, extent -4.06,3.95 -3.56,5.4

## SOT23 [mm] "SOT-23; 3 Leads; Body 3.0 x 2.5 mm, inc. leads (LxW max)"
height 1.1
pads (3):
  rect 0.85x1 smd: 1(-0.95,-1.2)
  rrect50% 0.85x1 smd: 2(0.95,-1.2) 3(0,1.2)
Top Overlay:
  circle w0.25: c-1.925,-1.2 r0.125
  lines w0.2: -1.5,-0.3 -1.5,0.7 -0.825,0.7 ; 0.825,0.7 1.5,0.7 1.5,-0.3
Component Body:
  lines w0.01: -1.5,-0.7 1.5,-0.7 1.5,0.7 -1.5,0.7 -1.5,-0.7
3D body: height 0.1, standoff 0, extent -0.225,0.9 0.225,1.3
3D body: height 0.45, standoff 0.1, extent -0.225,0.9 0.225,1
3D body: height 0.55, standoff 0.45, extent -0.225,0.7 0.225,1
3D body: height 0.55, standoff 0.45, extent -1.175,-1 -0.725,-0.7
3D body: height 0.45, standoff 0.1, extent -1.175,-1 -0.725,-0.9
3D body: height 0.1, standoff 0, extent -1.175,-1.3 -0.725,-0.9
3D body: height 0.55, standoff 0.45, extent 0.725,-1 1.175,-0.7
3D body: height 0.45, standoff 0.1, extent 0.725,-1 1.175,-0.9
3D body: height 0.1, standoff 0, extent 0.725,-1.3 1.175,-0.9
3D body: height 1.1, standoff 0, extent -1.5,-0.7 1.5,0.7

## SOT23-5 [mm] "SOT-23; 5 Leads; Body 3.0 x 3.0 mm, inc. leads (LxW max)"
height 1.45
pads (5):
  rect 0.7x1.3 smd: 1(-0.95,-1.2)
  rrect50% 0.7x1.3 smd: 2(0,-1.2) 3(0.95,-1.2) 4(0.95,1.2) 5(-0.95,1.2)
Top Overlay:
  circle w0.25: c-1.925,-1.2 r0.125
  lines w0.2: -1.6,-0.9 -1.6,0.9 ; -0.3,0.9 0.3,0.9 ; 1.6,-0.9 1.6,0.9
Component Body:
  lines w0.01: -1.5,-0.9 1.5,-0.9 1.5,0.9 -1.5,0.9 -1.5,-0.9
3D body: height 1.45, standoff 0, extent -1.5,-0.9 1.5,0.9
3D body: height 1, standoff 0.85, extent 0.725,0.8 1.175,1.25
3D body: height 0.85, standoff 0.15, extent 0.725,1.125 1.175,1.25
3D body: height 0.15, standoff 0, extent 0.725,1.125 1.175,1.6
3D body: height 1, standoff 0.85, extent -1.175,0.8 -0.725,1.25
3D body: height 0.85, standoff 0.15, extent -1.175,1.125 -0.725,1.25
3D body: height 0.15, standoff 0, extent -1.175,1.125 -0.725,1.6
3D body: height 1, standoff 0.85, extent 0.725,-1.25 1.175,-0.8
3D body: height 0.85, standoff 0.15, extent 0.725,-1.25 1.175,-1.125
3D body: height 0.15, standoff 0, extent 0.725,-1.6 1.175,-1.125
3D body: height 1, standoff 0.85, extent -1.175,-1.25 -0.725,-0.8
3D body: height 0.85, standoff 0.15, extent -1.175,-1.25 -0.725,-1.125
3D body: height 0.15, standoff 0, extent -1.175,-1.6 -0.725,-1.125
3D body: height 0.15, standoff 0, extent -0.225,-1.6 0.225,-1.125
3D body: height 0.85, standoff 0.15, extent -0.225,-1.25 0.225,-1.125
3D body: height 1, standoff 0.85, extent -0.225,-1.25 0.225,-0.8

## SOT23-6(SC74) [mm] "SOT23-6; 6 Leads; Body 2.9 x 2.5 mm, inc. leads (LxW max)"
height 1.1
pads (6):
  rect 0.7x1.3 smd: 1(-0.95,-1.2)
  rrect50% 0.7x1.3 smd: 2(0,-1.2) 3(0.95,-1.2) 4(0.95,1.2) 5(0,1.2) 6(-0.95,1.2)
Top Overlay:
  circle w0.25: c-1.925,-1.2 r0.125
  lines w0.2: -1.6,-0.9 -1.6,0.9 ; 1.6,-0.9 1.6,0.9
Component Body:
  lines w0.01: -1.45,-0.8 -1.45,0.8 1.45,0.8 1.45,-0.8 -1.45,-0.8
3D body: height 0.15, standoff 0, extent -0.225,1.125 0.225,1.6
3D body: height 0.85, standoff 0.15, extent -0.225,1.125 0.225,1.25
3D body: height 1, standoff 0.85, extent -0.225,0.8 0.225,1.25
3D body: height 1, standoff 0.85, extent 0.725,0.8 1.175,1.25
3D body: height 0.85, standoff 0.15, extent 0.725,1.125 1.175,1.25
3D body: height 0.15, standoff 0, extent 0.725,1.125 1.175,1.6
3D body: height 1, standoff 0.85, extent -1.175,0.8 -0.725,1.25
3D body: height 0.85, standoff 0.15, extent -1.175,1.125 -0.725,1.25
3D body: height 0.15, standoff 0, extent -1.175,1.125 -0.725,1.6
3D body: height 1, standoff 0.85, extent 0.725,-1.25 1.175,-0.8
3D body: height 0.85, standoff 0.15, extent 0.725,-1.25 1.175,-1.125
3D body: height 0.15, standoff 0, extent 0.725,-1.6 1.175,-1.125
3D body: height 1, standoff 0.85, extent -1.175,-1.25 -0.725,-0.8
3D body: height 0.85, standoff 0.15, extent -1.175,-1.25 -0.725,-1.125
3D body: height 0.15, standoff 0, extent -1.175,-1.6 -0.725,-1.125
3D body: height 0.15, standoff 0, extent -0.225,-1.6 0.225,-1.125
3D body: height 0.85, standoff 0.15, extent -0.225,-1.25 0.225,-1.125
3D body: height 1, standoff 0.85, extent -0.225,-1.25 0.225,-0.8
3D body: height 1.1, standoff 0, extent -1.449,-0.799 1.449,0.799

## SOT23-8 [mm] "SOT23-8, 8 Leads; Body 2.9 x 2.8 mm, inc. leads (LxW max)"
height 1.45
pads (8):
  rect 0.45x1.3 smd: 1(-0.975,-1.2)
  oval 0.45x1.3 smd: 2(-0.325,-1.2) 3(0.325,-1.2) 4(0.975,-1.2) 5(0.975,1.2) 6(0.325,1.2) 7(-0.325,1.2) 8(-0.975,1.2)
Top Overlay:
  circle w0.25: c-1.925,-1.2 r0.125
  lines w0.2: -1.6,-0.9 -1.6,0.9 ; 1.6,-0.9 1.6,0.9
Component Body:
  lines w0.01: -1.45,-0.8 1.45,-0.8 1.45,0.8 -1.45,0.8 -1.45,-0.8
3D body: height 1.1, standoff 0, extent -1.449,-0.799 1.449,0.799
3D body: height 1, standoff 0.85, extent -1.2,-1.25 -0.75,-0.8
3D body: height 0.85, standoff 0.15, extent -1.2,-1.25 -0.75,-1.125
3D body: height 0.15, standoff 0, extent -1.2,-1.6 -0.75,-1.125
3D body: height 1, standoff 0.85, extent -0.55,-1.25 -0.1,-0.8
3D body: height 0.85, standoff 0.15, extent -0.55,-1.25 -0.1,-1.125
3D body: height 0.15, standoff 0, extent -0.55,-1.6 -0.1,-1.125
3D body: height 1, standoff 0.85, extent 0.1,-1.25 0.55,-0.8
3D body: height 0.85, standoff 0.15, extent 0.1,-1.25 0.55,-1.125
3D body: height 0.15, standoff 0, extent 0.1,-1.6 0.55,-1.125
3D body: height 1, standoff 0.85, extent 0.75,-1.25 1.2,-0.8
3D body: height 0.85, standoff 0.15, extent 0.75,-1.25 1.2,-1.125
3D body: height 0.15, standoff 0, extent 0.75,-1.6 1.2,-1.125
3D body: height 1, standoff 0.85, extent 0.75,0.8 1.2,1.25
3D body: height 0.85, standoff 0.15, extent 0.75,1.125 1.2,1.25
3D body: height 0.15, standoff 0, extent 0.75,1.125 1.2,1.6
3D body: height 1, standoff 0.85, extent 0.1,0.8 0.55,1.25
3D body: height 0.85, standoff 0.15, extent 0.1,1.125 0.55,1.25
3D body: height 0.15, standoff 0, extent 0.1,1.125 0.55,1.6
3D body: height 1, standoff 0.85, extent -0.55,0.8 -0.1,1.25
3D body: height 0.85, standoff 0.15, extent -0.55,1.125 -0.1,1.25
3D body: height 0.15, standoff 0, extent -0.55,1.125 -0.1,1.6
3D body: height 1, standoff 0.85, extent -1.2,0.8 -0.75,1.25
3D body: height 0.85, standoff 0.15, extent -1.2,1.125 -0.75,1.25
3D body: height 0.15, standoff 0, extent -1.2,1.125 -0.75,1.6

## SOT32 [mm] "SIP with Mounting Hole; 3 Leads; Body 10.7 x 7.6 x 2.6 mm (typ); Pitch 2.2 mm"
height 13.4
pads (3):
  rect 1.7x1.7 / inner rect 2x2 / far side rect 1.7x1.7 hole 1.1: 1(-2.2,0)
  round 1.7 / inner round 2 / far side round 1.7 hole 1.1: 2(0,0) 3(2.2,0)
Top Overlay:
  circle w0.25: c-3.85,-2.65 r0.125
  rectangle: -4,1.4 4,1.8
  lines w0.2: -3.9,1.4 -3.9,-1.85 3.9,-1.85 3.9,1.4
Component Body:
  lines w0.01: -3.8,-1.3 3.8,-1.3 3.8,1.3 -3.8,1.3 -3.8,-1.3
3D body: height 2.8, standoff -6.5, extent 1.803,-0.399 2.6,0.399
3D body: height 2.8, standoff -6.5, extent -0.397,-0.399 0.4,0.399
3D body: height 11.59, standoff 8.4, extent -1.597,-1.325 1.597,1.375
3D body: height 13.4, standoff 2.15, extent -3.8,-1.3 3.8,1.3
3D body: height 13, standoff 5, extent -3,1.25 3,1.325
3D body: height 2.8, standoff -6.5, extent -2.597,-0.399 -1.8,0.399

## SOT32_90 [mm] "SIP with Mounting Hole, Horizontal; 3 Leads; Body 10.7 x 7.6 x 2.6 mm (typ); Pitch 2.2 mm"
height 2.7
pads (4):
  rect 1.7x1.7 / inner rect 2x2 / far side rect 1.7x1.7 hole 1.1: 1(-2.2,0)
  round 1.7 / inner round 2 / far side round 1.7 hole 1.1: 2(0,0) 3(2.2,0)
  rect 7x8 / inner round 5 / far side round 7 hole 3.2: MH(0,11)
Top Overlay:
  lines w0.2: -4,4.2 -4,15.3 4,15.3 4,4.2 -4,4.2
Component Body:
  lines w0.01: -4,4.2 4,4.2 4,15.3 -4,15.3 -4,4.2
3D body: height 2, standoff -6.5, extent -2.7,-0.5 -1.704,0.498
3D body: height 2.5, standoff 1.5, extent -2.698,0 -1.702,4.2
3D body: height 2.7, standoff 0, extent -3.999,4.201 3.999,15.299
3D body: height 2.5, standoff 1.5, extent -0.498,0 0.498,4.2
3D body: height 2.5, standoff 1.5, extent 1.702,0 2.698,4.2
3D body: height 2.71, standoff 0, extent -1.597,9.413 1.597,12.6
3D body: height 2, standoff -6.5, extent -0.496,-0.499 0.5,0.499
3D body: height 2, standoff -6.5, extent 1.704,-0.499 2.7,0.499